# EAGLE library part NEM_652 (library con-nem)
NEM 652 Midrange Decoder
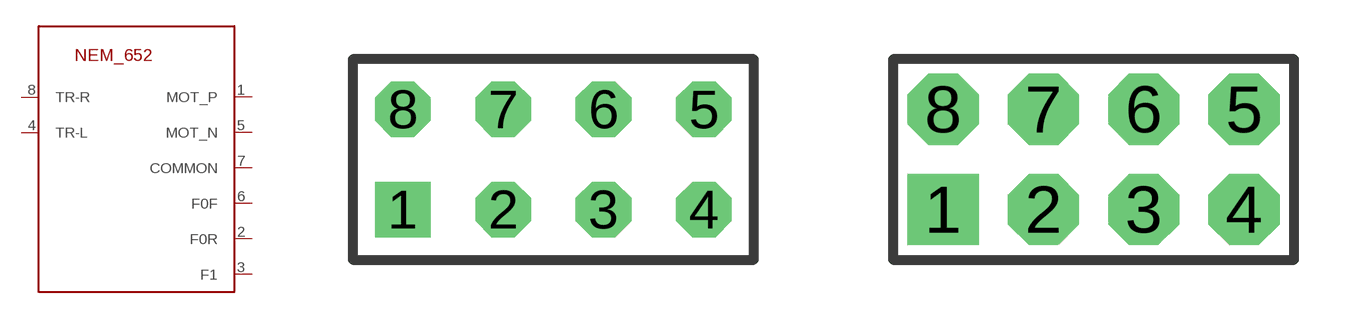
[diagram p7: symbol with the pads of 8POL254_D09; footprints 8POL254_D09, 8POL254_D12]

Designator prefix X

## NEM_652-D09  [8POL254_D09]
1  MOT_P
2  F0R
3  F1
4  TR-L
5  MOT_N
6  F0F
7  COMMON
8  TR-R

## NEM_652-D12  [8POL254_D12]
Pads as for 8POL254_D09

## NEM_652-D14  [8POL254_D14]
Pads as for 8POL254_D09

## Footprint 8POL254_D09 (pad centres in mm)
0.254 pitch plug drill: 0.9mm pinnumbers according to NMRA
drill 0.9 square: 1 -3.81,-1.27
drill 0.9 octagon: 2 -1.27,-1.27; 3 1.27,-1.27; 4 3.81,-1.27; 5 3.81,1.27; 6 1.27,1.27; 7 -1.27,1.27; 8 -3.81,1.27

## Footprint 8POL254_D12 (pad centres in mm)
0.254 pitch plug drill: 1.2mm pinnumbers according to NMRA
drill 1.2 square: 1 -3.81,-1.27
drill 1.2 octagon: 2 -1.27,-1.27; 3 1.27,-1.27; 4 3.81,-1.27; 5 3.81,1.27; 6 1.27,1.27; 7 -1.27,1.27; 8 -3.81,1.27

## Footprint 8POL254_D14 (pad centres in mm)
0.254 pitch plug drill: 1.4mm (for deep mount in PCB) pinnumbers according to NMRA
drill 1.4 square: 1 -3.81,-1.27
drill 1.4 octagon: 2 -1.27,-1.27; 3 1.27,-1.27; 4 3.81,-1.27; 5 3.81,1.27; 6 1.27,1.27; 7 -1.27,1.27; 8 -3.81,1.27